# EAGLE library part USB (library pimoroni-connectors)
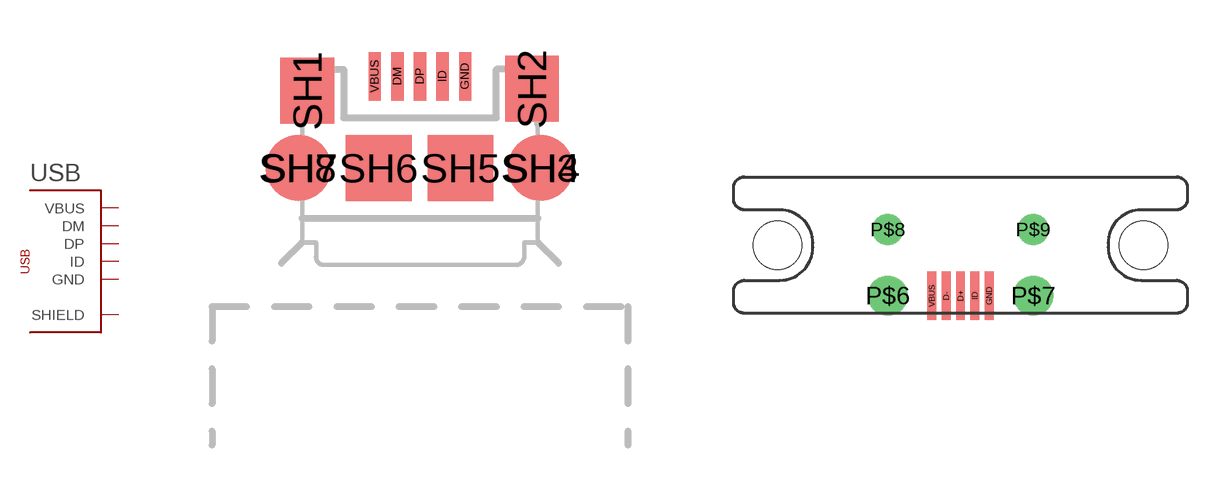
[diagram p0: symbol with the pads of MICROB-USB; footprints MICROB-USB, ZX80-B-5P]

Designator prefix USB

## USBMICROB  [MICROB-USB]
DM  DM
DP  DP
GND  GND
ID  ID
SH1  SHIELD
SH2  SHIELD
SH3  SHIELD
SH4  SHIELD
SH5  SHIELD
SH6  SHIELD
SH7  SHIELD
SH8  SHIELD
VBUS  VBUS

## USBZX80-B-5P  [ZX80-B-5P]
D+  DP
D-  DM
GND  GND
ID  ID
P$6  SHIELD
P$7  SHIELD
P$8  SHIELD
P$9  SHIELD
VBUS  VBUS

## USBNO_LUGS  [MICROB-USB_10118192-0002LF]
DM  DM
DP  DP
GND  GND
ID  ID
SH1  SHIELD
SH2  SHIELD
SH3  SHIELD
SH4  SHIELD
SH5  SHIELD
SH6  SHIELD
VBUS  VBUS

## USBUSB_VERTICAL_M  [USB_VERTICAL_M]
1  VBUS
2  DM
3  DP
4  ID
5  GND
MT1  SHIELD
MT2  SHIELD

## Footprint MICROB-USB (pad centres in mm)
smd 0.35 x 1.4: DM -0.65,2.65; DP 0,2.65; GND 1.3,2.65; ID 0.65,2.65; VBUS -1.3,2.65
smd 1.546 x 1.9: SH1 -3.251,2.235; SH2 3.226,2.286
drill 1.2 pad 1.6: SH3 3.48,0; SH8 -3.505,0
smd 1.9 x 1.9: SH4 3.48,0; SH5 1.168,0; SH6 -1.194,0; SH7 -3.505,0

## Footprint ZX80-B-5P (pad centres in mm)
smd 0.4 x 2.2: D+ 0,-2.3; D- -0.65,-2.3; GND 1.3,-2.3; ID 0.65,-2.3; VBUS -1.3,-2.3
drill 1.2: P$6 -3.3,-2.3; P$7 3.3,-2.3
drill 0.9: P$8 -3.3,0.7; P$9 3.3,0.7
hole 2.2 at -8.3,0
hole 2.2 at 8.3,0

## Footprint MICROB-USB_10118192-0002LF (pad centres in mm)
smd 0.35 x 1.6: DM -0.65,2.75; DP 0,2.75; GND 1.3,2.75; ID 0.65,2.75; VBUS -1.3,2.75
smd 2.1 x 1.6: SH1 -3.1,2.55; SH2 3.1,2.55
smd 1.8 x 1.9: SH3 -3.8,0; SH4 3.8,0
smd 1.9 x 1.9: SH5 1.2,-0.2; SH6 -1.3,-0.2

## Footprint USB_VERTICAL_M (pad centres in mm)
smd 0.35 x 3: 1 -1.3,0; 2 -0.65,0; 3 0,0; 4 0.65,0; 5 1.3,0
smd 0.5 x 0.5: MT1 -3.5,0; MT2 3.5,0
hole 0.65 at -2.255,-0.665
hole 0.65 at 2.255,-0.665